# EAGLE library part 750813134 (library WE-OLLT)
WE-OLLT Offline Flyback Transformers Characteristics Flyback topology Designs for Universal, US and European input voltages Low leakage inductance Isolation voltage up to 4500VAC Operating temperature: –40 °C to +125 °C Most products meet reinforced insulation Applications Offline Applications High DC VIN Isolated Applications Offline Bus Converter (12V, 24V or 48V Outputs) Industrial power supplies Medical power supplies Auxiliary power supply Home appliances Consumer electronics <https://www.we-online.com/components/media/o784499v209%20FAMILY-MID-OLLT-mixed.jpg> Details see: www.we-online.com/en/components/products/WE-OLLT <www.we-online.com/catalog/WE-OLLT/?utm_source=eagle_model&utm_medium=description_link&utm_campaign=eisos_eagle> Created by Ella Wu 2024-07-03 2024 (C) Wurth Elektronik
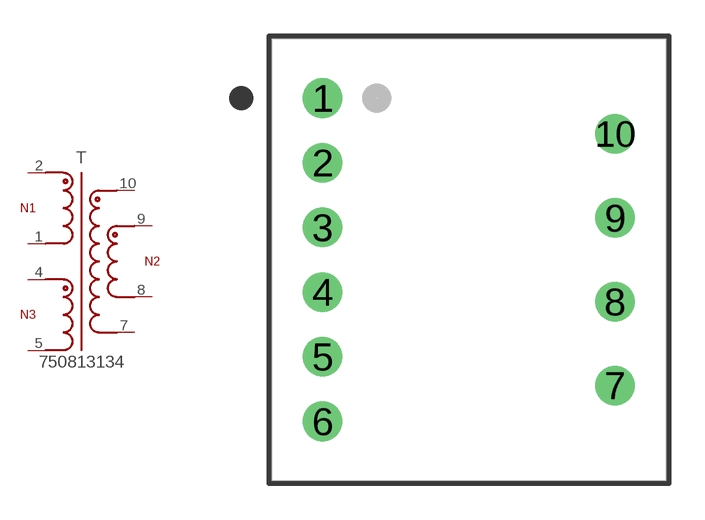
[diagram p18: symbol with the pads of WE-OLLT_EE16/7/5_L18.5W16.5H18.8; footprint WE-OLLT_EE16/7/5_L18.5W16.5H18.8]

Designator prefix T

## 750813134 (DATASHEET-URL: https://www.we-online.com/redexpert/spec/750813134?ae; FSWITCH: 100kHz; HEIGHT: 18mm; IOUT1: 1000A; ISAT: 1750V; L: 0.6uH; LENGTH: 18mm; MOUNT: THT; N: 8:1:1.28; PART-NUMBER: 750813134; SIZE: EE16/7/5; VALUE: 750813134; VAUX: 18V; VIN: 85 - 265 V (AC); VOUT1: 14V; VT: 4500V(AC); WIDTH: 16.5mm)  [WE-OLLT_EE16/7/5_L18.5W16.5H18.8]
1  1  pas
2  2  pas
4  4  pas
5  5  pas
7  7  pas
8  8  pas
9  9  pas
10  10  pas

## Footprint WE-OLLT_EE16/7/5_L18.5W16.5H18.8 (pad centres in mm)
WE-OLLT Offline Flyback Transformers Size: EE16/7/5,THT,10pins LXWXH=18.5X16.5X18.8mm
drill 1.1: 1 -6.1,6.75; 2 -6.1,4.05; 3 -6.1,1.35; 4 -6.1,-1.35; 5 -6.1,-4.05; 6 -6.1,-6.75; 7 6.1,-5.25; 8 6.1,-1.75; 9 6.1,1.75; 10 6.1,5.25